# EAGLE library part MCP48X1 (library Synapseware-transistors)
MCP4801/4811/4821 8/10/12-Bit Voltage Output Digital-to-Analog Converter with Internal V REF and SPI Interface
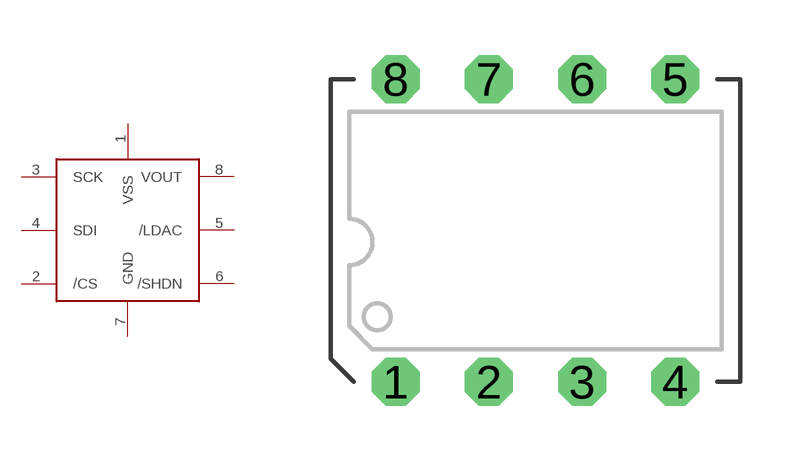
[diagram p31: symbol with the pads of PDIP-8; footprint PDIP-8]

Designator prefix -

## MCP48X1PDIP-8  [PDIP-8]
1  VSS
2  /CS
3  SCK
4  SDI
5  /LDAC
6  /SHDN
7  GND
8  VOUT

## Footprint PDIP-8 (pad centres in mm)
PDIP-8
drill 0.8 octagon: 1 0,0; 2 2.54,0; 3 5.08,0; 4 7.62,0; 5 7.62,8.255; 6 5.08,8.255; 7 2.54,8.255; 8 0,8.255